# EAGLE library part IV-8 (library Russian-VFD-tubes)
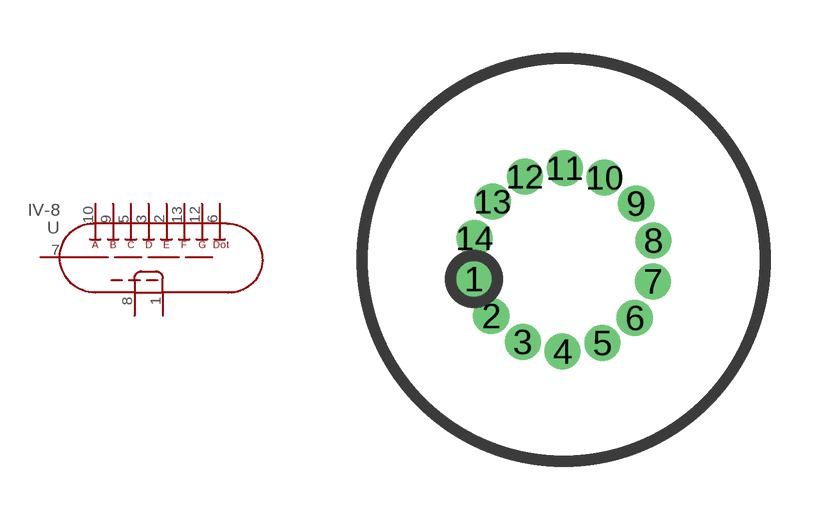
[diagram p5: symbol with the pads of IV-8; footprint IV-8]

Designator prefix -

## IV-8  [IV-8]
1  FIL_+
2  E
3  D
5  C
6  DP
7  CONTROLL
8  FLIL_-
9  B
10  A
12  G
13  F

## Footprint IV-8 (pad centres in mm)
Eagle SCR autogenerated 14 pin Nixie socket
drill 0.42: 1 -2.323,-0.35; 2 -1.88,-1.302; 3 -1.068,-1.968; 4 -0.047,-2.215; 5 0.979,-1.995; 6 1.809,-1.351; 7 2.277,-0.411; 8 2.29,0.639; 9 1.847,1.591; 10 1.035,2.256; 11 0.015,2.503; 12 -1.012,2.283; 13 -1.841,1.639; 14 -2.309,0.699